# Altium schematic symbol library Terminal_Blocks_PLC_7.62mm.SchLib: 5 symbols
Pins are listed as number, name and electrical type; pins without a type are passive.

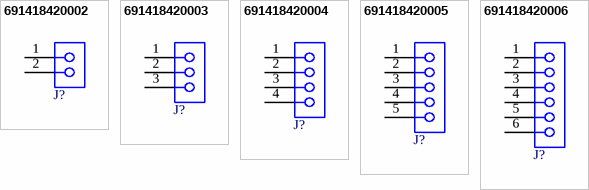
[diagram p0: symbols 691418420002 to 691418420006]

## 691418420002
designator J?  (value not drawn)
WR-TBL Series 4184 45° Entry, THT, pitch 7.62mm, 2p; Manufacturer: Wurth Elektronik; Modularity: No; Rated Current: 4A; Working Voltage: 300V; Supply 3 Name: ThegioiIC; ComponentLink1Description: Website Link; ComponentLink1URL: https://www.we-online.com/redexpert/article/691418420002?ad; ComponentLink2Description: Datasheet Link; ComponentLink2URL: https://www.we-online.com/redexpert/spec/691418420002?ad; Manufacturer Part Number: 691418420002; Category: Terminal Blocks; Match Code: WR-TBL; Mount: Through Hole; Operating Temperature Max: 120°C; Operating Temperature Min: -30°C; Packaging: Box; Application: Screwless; Number of Pins: 2; Number of Rows: 1; Orientation: 45°; Pitch: 7.62mm; Supply 1 Name: *; Supply 1 SN: *; Supply 1 URL: *; Supply 2 Name: *; Supply 2 SN: *; Supply 2 URL: *; Supply 3 SN: *; Supply 3 URL 1: https://www.thegioiic.com/hb762-2-terminal-khoi-han-pcb-2-cuc-24a-450v-7-62mm; Supply 3 URL 2: https://www.thegioiic.com/kf7-62-2-terminal-khoi-han-pcb-2-cuc-20a-300v-7-62mm
footprint 691418420002
pins: 1, 2

## 691418420003
designator J?  (value not drawn)
WR-TBL Series 4184 45° Entry, THT, pitch 7.62mm, 3p; Manufacturer: Wurth Elektronik; Modularity: No; Rated Current: 4A; Working Voltage: 300V; Supply 3 Name: ThegioiIC; ComponentLink1Description: Website Link; ComponentLink1URL: https://www.we-online.com/redexpert/article/691418420003?ad; ComponentLink2Description: Datasheet Link; ComponentLink2URL: https://www.we-online.com/redexpert/spec/691418420003?ad; Manufacturer Part Number: 691418420003; Category: Terminal Blocks; Match Code: WR-TBL; Mount: Through Hole; Operating Temperature Max: 120°C; Operating Temperature Min: -30°C; Packaging: Box; Application: Screwless; Number of Pins: 3; Number of Rows: 1; Orientation: 45°; Pitch: 7.62mm; Supply 1 Name: *; Supply 1 SN: *; Supply 1 URL: *; Supply 2 Name: *; Supply 2 SN: *; Supply 2 URL: *; Supply 3 SN: *; Supply 3 URL 1: https://www.thegioiic.com/kf7-62-3-terminal-khoi-han-pcb-3-cuc-20a-300v-7-62mm; Supply 3 URL 2: https://www.thegioiic.com/hb762-3-terminal-khoi-han-pcb-3-cuc-24a-450v-7-62mm
footprint 691418420003
pins: 1, 2, 3

## 691418420004
designator J?  (value not drawn)
WR-TBL Series 4184 45° Entry, THT, pitch 7.62mm, 4p; Manufacturer: Wurth Elektronik; Modularity: No; Rated Current: 4A; Working Voltage: 300V; Supply 3 Name: ThegioiIC; ComponentLink1Description: Website Link; ComponentLink1URL: https://www.we-online.com/redexpert/article/691418420004?ad; ComponentLink2Description: Datasheet Link; ComponentLink2URL: https://www.we-online.com/redexpert/spec/691418420004?ad; Manufacturer Part Number: 691418420004; Category: Terminal Blocks; Match Code: WR-TBL; Mount: Through Hole; Operating Temperature Max: 120°C; Operating Temperature Min: -30°C; Packaging: Box; Application: Screwless; Number of Pins: 4; Number of Rows: 1; Orientation: 45°; Pitch: 7.62mm; Supply 1 Name: *; Supply 1 SN: *; Supply 1 URL: *; Supply 2 Name: *; Supply 2 SN: *; Supply 2 URL: *; Supply 3 SN: *; Supply 3 URL 1: https://www.thegioiic.com/kf7-62-4-terminal-khoi-han-pcb-4-cuc-20a-300v-7-62mm; Supply 3 URL 2: https://www.thegioiic.com/hb762-4-terminal-khoi-han-pcb-4-cuc-24a-450v-7-62mm
footprint 691418420004
pins: 1, 2, 3, 4

## 691418420005
designator J?  (value not drawn)
WR-TBL Series 4184 45° Entry, THT, pitch 7.62mm, 5p; Manufacturer: Wurth Elektronik; Modularity: No; Rated Current: 4A; Working Voltage: 300V; Supply 3 Name: ThegioiIC; ComponentLink1Description: Website Link; ComponentLink1URL: https://www.we-online.com/redexpert/article/691418420005?ad; ComponentLink2Description: Datasheet Link; ComponentLink2URL: https://www.we-online.com/redexpert/spec/691418420005?ad; Manufacturer Part Number: 691418420005; Category: Terminal Blocks; Match Code: WR-TBL; Mount: Through Hole; Operating Temperature Max: 120°C; Operating Temperature Min: -30°C; Packaging: Box; Application: Screwless; Number of Pins: 5; Number of Rows: 1; Orientation: 45°; Pitch: 7.62mm; Supply 1 Name: *; Supply 1 SN: *; Supply 1 URL: *; Supply 2 Name: *; Supply 2 SN: *; Supply 2 URL: *; Supply 3 SN: *; Supply 3 URL 1: https://www.thegioiic.com/kf7-62-5-terminal-khoi-han-pcb-5-cuc-20a-300v-7-62mm; Supply 3 URL 2: https://www.thegioiic.com/hb762-5-terminal-khoi-han-pcb-5-cuc-24a-450v-7-62mm
footprint 691418420005
pins: 1, 2, 3, 4, 5

## 691418420006
designator J?  (value not drawn)
WR-TBL Series 4184 45° Entry, THT, pitch 7.62mm, 6p; Manufacturer: Wurth Elektronik; Modularity: No; Rated Current: 4A; Working Voltage: 300V; Supply 3 Name: ThegioiIC; ComponentLink1Description: Website Link; ComponentLink1URL: https://www.we-online.com/redexpert/article/691418420006?ad; ComponentLink2Description: Datasheet Link; ComponentLink2URL: https://www.we-online.com/redexpert/spec/691418420006?ad; Manufacturer Part Number: 691418420006; Category: Terminal Blocks; Match Code: WR-TBL; Mount: Through Hole; Operating Temperature Max: 120°C; Operating Temperature Min: -30°C; Packaging: Box; Application: Screwless; Number of Pins: 6; Number of Rows: 1; Orientation: 45°; Pitch: 7.62mm; Supply 1 Name: *; Supply 1 SN: *; Supply 1 URL: *; Supply 2 Name: *; Supply 2 SN: *; Supply 2 URL: *; Supply 3 SN: *; Supply 3 URL 1: https://www.thegioiic.com/kf7-62-6-terminal-khoi-han-pcb-6-cuc-20a-300v-7-62mm; Supply 3 URL 2: https://www.thegioiic.com/hb762-6-terminal-khoi-han-pcb-6-cuc-24a-450v-7-62mm; Supply 3 URL: *
footprint 691418420006
pins: 1, 2, 3, 4, 5, 6